# EAGLE library part PHONO-PSG01551 (library connectors)
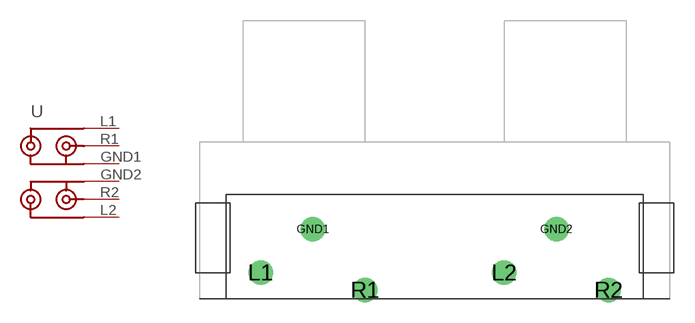
[diagram p1: symbol with the pads of PHONO-PSG01551; footprint PHONO-PSG01551]

Designator prefix -

## PHONO-PSG01551PHONO-PSG01551  [PHONO-PSG01551]
GND1  GND1
GND2  GND2
L1  L1
L2  L2
R1  R1
R2  R2

## Footprint PHONO-PSG01551 (pad centres in mm)
drill 1.2 pad 1.778: GND1 -8.89,1.27; GND2 8.89,1.27; L1 -12.7,-1.905; L2 5.08,-1.905; R1 -5.08,-3.175; R2 12.7,-3.175